# EAGLE library part NRF24L01+-PINHEADER (library NRF24L01+-Pinheader)
Pin receptacle for the NRF24L01+ RF module (e.g. EXP-R59-004)
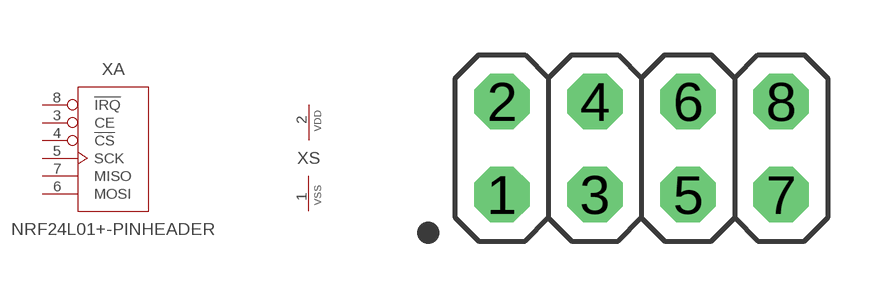
[diagram p0: symbol with the pads of 2X04; footprint 2X04]

Designator prefix X; gates A=NRF24L01+ S=SUPPLY

## NRF24L01+-PINHEADER (MFG: Preci-Dip; MPN: 803-87-008-10-012101)  [2X04]
1  S:VSS  pwr
2  S:VDD  pwr
3  A:CE  in
4  A:!CS  in
5  A:SCK  in
6  A:MOSI  in
7  A:MISO  out
8  A:!IRQ  out

## Footprint 2X04 (pad centres in mm)
PIN HEADER
drill 1.016 octagon: 1 -3.81,-1.27; 2 -3.81,1.27; 3 -1.27,-1.27; 4 -1.27,1.27; 5 1.27,-1.27; 6 1.27,1.27; 7 3.81,-1.27; 8 3.81,1.27